# EAGLE library part 189-009-513R691 (library 000_ICS)
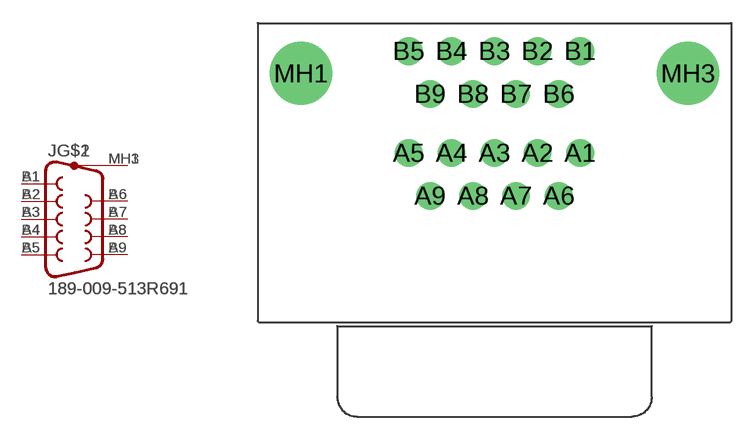
[diagram p19: symbol with the pads of 189-009-513R691; footprint 189-009-513R691]

Designator prefix J; gates G$1=F09G G$2=F09G

## 189-009-513R691DUAL_DB9_FF  [189-009-513R691]
A1  G$1:1  pas
A2  G$1:2  pas
A3  G$1:3  pas
A4  G$1:4  pas
A5  G$1:5  pas
A6  G$1:6  pas
A7  G$1:7  pas
A8  G$1:8  pas
A9  G$1:9  pas
B1  G$2:1  pas
B2  G$2:2  pas
B3  G$2:3  pas
B4  G$2:4  pas
B5  G$2:5  pas
B6  G$2:6  pas
B7  G$2:7  pas
B8  G$2:8  pas
B9  G$2:9  pas
MH1  G$1:G1  pas
MH3  G$2:G1  pas

## Footprint 189-009-513R691 (pad centres in mm)
drill 1.194: A1 5.537,0; A2 2.769,0; A3 0,0; A4 -2.769,0; A5 -5.537,0; A6 4.153,-2.769; A7 1.384,-2.769; A8 -1.384,-2.769; A9 -4.153,-2.769; B1 5.537,6.579; B2 2.769,6.579; B3 0,6.579; B4 -2.769,6.579; B5 -5.537,6.579; B6 4.153,3.81; B7 1.384,3.81; B8 -1.384,3.81; B9 -4.153,3.81
drill 3.048: MH1 -12.497,5.156; MH3 12.497,5.156